# Altium schematic symbol library Power-DCDC-PW5100.SchLib: 1 symbol
Pins are listed as number, name and electrical type; pins without a type are passive.

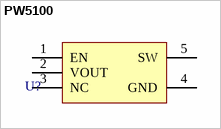
[diagram p0: symbol PW5100]

## PW5100
designator U?
pins: 1 EN, 2 VOUT, 3 NC, 4 GND, 5 SW